# Altium footprint library oscillator.PcbLib: 1 footprints
Each footprint in its own frame and in the unit in brackets; x right, y up, seen from the top. Pads: shape width x height; smd on the part's side, far side on the other; paste and mask are expansions set on the pad; w line width, h text height; cw(c..) or ccw(c..) is an arc to the next point about the centre after c.
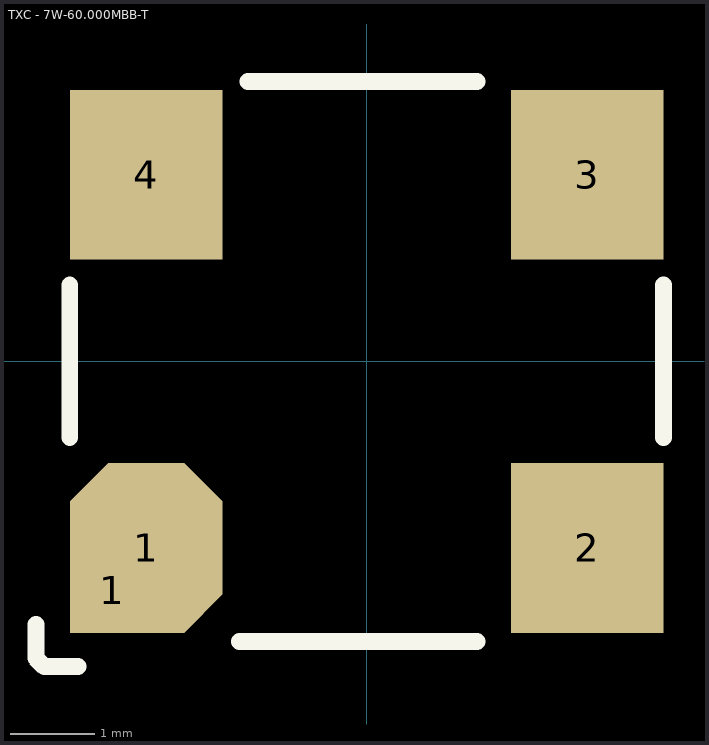
[diagram p0: the footprint, top view; thin cyan lines are the x and y axes]

## TXC - 7W-60.000MBB-T [mm]
pads (5):
  rect 1x1 smd: 1(-3,-2.7)
  oct 1.8x2 smd: 1(-2.6,-2.2)
  rect 1.8x2 smd: 2(2.6,-2.2) 3(2.6,2.2) 4(-2.6,2.2)
Top Overlay:
  lines w0.2: -3.9,-3.1 -3.9,-3.5 -3.8,-3.6 -3.4,-3.6 ; -3.5,-0.9 -3.5,0.9 ; -1.5,-3.3 1.3,-3.3 ; -1.4,3.3 1.3,3.3 ; 3.5,-0.9 3.5,0.9